# EAGLE library part 65*02 (library commodore)
6502 processor
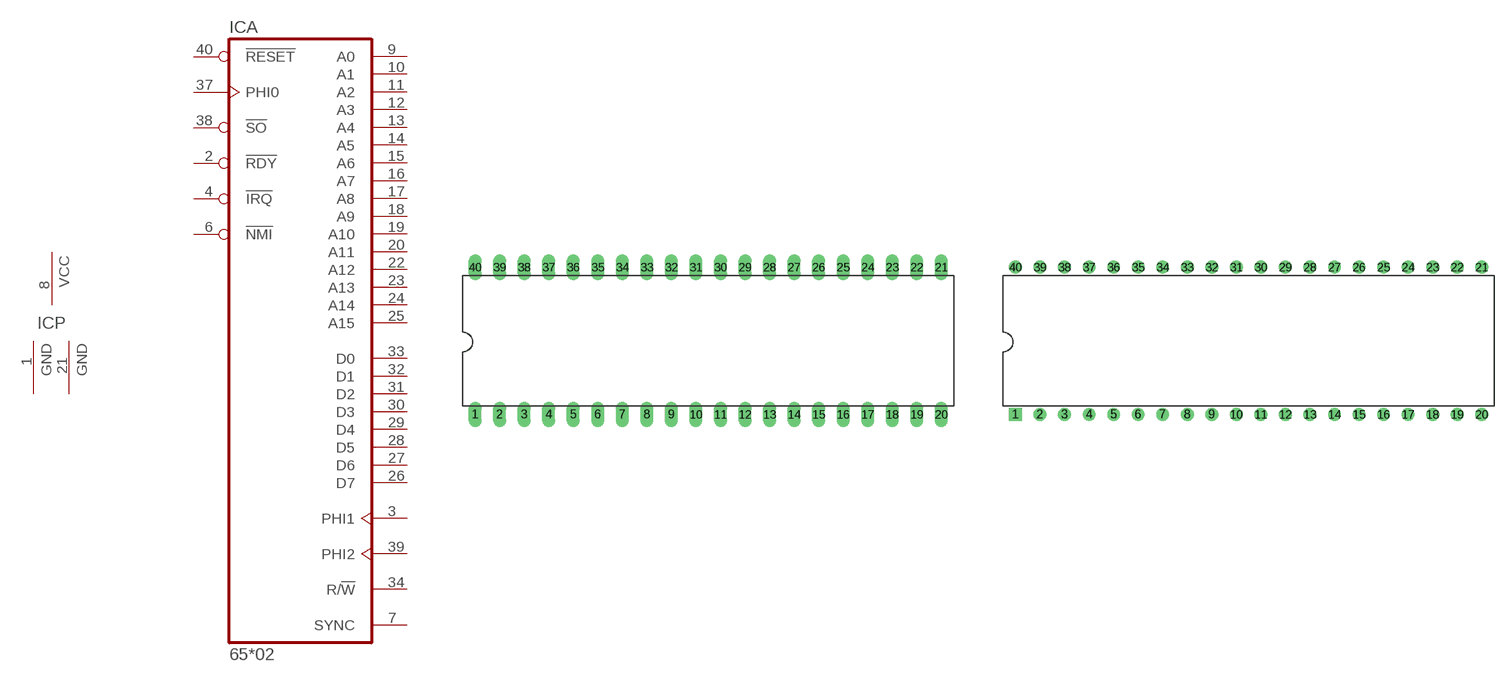
[diagram p14: symbol with the pads of DIL40; footprints DIL40, DIL40-ROUNDPAD]

Designator prefix IC; gates A=6502 P=PWR-GND2

## 6502, 65C02  [DIL40]
1  P:GND  pwr
2  A:!RDY  in
3  A:PHI1  out
4  A:!IRQ  in
6  A:!NMI  in
7  A:SYNC  out
8  P:VCC  pwr
9  A:A0  out
10  A:A1  out
11  A:A2  out
12  A:A3  out
13  A:A4  out
14  A:A5  out
15  A:A6  out
16  A:A7  out
17  A:A8  out
18  A:A9  out
19  A:A10  out
20  A:A11  out
21  P:GND  pwr
22  A:A12  out
23  A:A13  out
24  A:A14  out
25  A:A15  out
26  A:D7
27  A:D6
28  A:D5
29  A:D4
30  A:D3
31  A:D2
32  A:D1
33  A:D0
34  A:R/!W  out
37  A:PHI0  in
38  A:!SO  in
39  A:PHI2  out
40  A:!RESET  in

## 6502-RP, 65C02-RP  [DIL40-ROUNDPAD]
Pads as for DIL40

## 6502-S, 65C02-S  [DIL40-SMD]
Pads as for DIL40

## 6502-SR, 65C02-SR  [DIL40-SMD-REVERSE]
Pads as for DIL40

## Footprint DIL40 (pad centres in mm)
Dual In Line Package
drill 0.813 long: 1 -24.13,-7.62; 2 -21.59,-7.62; 3 -19.05,-7.62; 4 -16.51,-7.62; 5 -13.97,-7.62; 6 -11.43,-7.62; 7 -8.89,-7.62; 8 -6.35,-7.62; 9 -3.81,-7.62; 10 -1.27,-7.62; 11 1.27,-7.62; 12 3.81,-7.62; 13 6.35,-7.62; 14 8.89,-7.62; 15 11.43,-7.62; 16 13.97,-7.62; 17 16.51,-7.62; 18 19.05,-7.62; 19 21.59,-7.62; 20 24.13,-7.62; 21 24.13,7.62; 22 21.59,7.62; 23 19.05,7.62; 24 16.51,7.62; 25 13.97,7.62; 26 11.43,7.62; 27 8.89,7.62; 28 6.35,7.62; 29 3.81,7.62; 30 1.27,7.62; 31 -1.27,7.62; 32 -3.81,7.62; 33 -6.35,7.62; 34 -8.89,7.62; 35 -11.43,7.62; 36 -13.97,7.62; 37 -16.51,7.62; 38 -19.05,7.62; 39 -21.59,7.62; 40 -24.13,7.62

## Footprint DIL40-ROUNDPAD (pad centres in mm)
Dual In Line Package
drill 0.813 square: 1 -24.13,-7.62
drill 0.813: 2 -21.59,-7.62; 3 -19.05,-7.62; 4 -16.51,-7.62; 5 -13.97,-7.62; 6 -11.43,-7.62; 7 -8.89,-7.62; 8 -6.35,-7.62; 9 -3.81,-7.62; 10 -1.27,-7.62; 11 1.27,-7.62; 12 3.81,-7.62; 13 6.35,-7.62; 14 8.89,-7.62; 15 11.43,-7.62; 16 13.97,-7.62; 17 16.51,-7.62; 18 19.05,-7.62; 19 21.59,-7.62; 20 24.13,-7.62; 21 24.13,7.62; 22 21.59,7.62; 23 19.05,7.62; 24 16.51,7.62; 25 13.97,7.62; 26 11.43,7.62; 27 8.89,7.62; 28 6.35,7.62; 29 3.81,7.62; 30 1.27,7.62; 31 -1.27,7.62; 32 -3.81,7.62; 33 -6.35,7.62; 34 -8.89,7.62; 35 -11.43,7.62; 36 -13.97,7.62; 37 -16.51,7.62; 38 -19.05,7.62; 39 -21.59,7.62; 40 -24.13,7.62

## Footprint DIL40-SMD (pad centres in mm)
smd 1 x 3.5: 1 -24.13,-8.92; 2 -21.59,-8.92; 3 -19.05,-8.92; 4 -16.51,-8.92; 5 -13.97,-8.92; 6 -11.43,-8.92; 7 -8.89,-8.92; 8 -6.35,-8.92; 9 -3.81,-8.92; 10 -1.27,-8.92; 11 1.27,-8.92; 12 3.81,-8.92; 13 6.35,-8.92; 14 8.89,-8.92; 15 11.43,-8.92; 16 13.97,-8.92; 17 16.51,-8.92; 18 19.05,-8.92; 19 21.59,-8.92; 20 24.13,-8.92; 21 24.13,8.92; 22 21.59,8.92; 23 19.05,8.92; 24 16.51,8.92; 25 13.97,8.92; 26 11.43,8.92; 27 8.89,8.92; 28 6.35,8.92; 29 3.81,8.92; 30 1.27,8.92; 31 -1.27,8.92; 32 -3.81,8.92; 33 -6.35,8.92; 34 -8.89,8.92; 35 -11.43,8.92; 36 -13.97,8.92; 37 -16.51,8.92; 38 -19.05,8.92; 39 -21.59,8.92; 40 -24.13,8.92

## Footprint DIL40-SMD-REVERSE (pad centres in mm)
smd 1 x 3.5 bottom: 1 -24.13,-8.92; 2 -21.59,-8.92; 3 -19.05,-8.92; 4 -16.51,-8.92; 5 -13.97,-8.92; 6 -11.43,-8.92; 7 -8.89,-8.92; 8 -6.35,-8.92; 9 -3.81,-8.92; 10 -1.27,-8.92; 11 1.27,-8.92; 12 3.81,-8.92; 13 6.35,-8.92; 14 8.89,-8.92; 15 11.43,-8.92; 16 13.97,-8.92; 17 16.51,-8.92; 18 19.05,-8.92; 19 21.59,-8.92; 20 24.13,-8.92; 21 24.13,8.92; 22 21.59,8.92; 23 19.05,8.92; 24 16.51,8.92; 25 13.97,8.92; 26 11.43,8.92; 27 8.89,8.92; 28 6.35,8.92; 29 3.81,8.92; 30 1.27,8.92; 31 -1.27,8.92; 32 -3.81,8.92; 33 -6.35,8.92; 34 -8.89,8.92; 35 -11.43,8.92; 36 -13.97,8.92; 37 -16.51,8.92; 38 -19.05,8.92; 39 -21.59,8.92; 40 -24.13,8.92